# Altium footprint library Conn_JST_SM04B-PASS-TBT_LF_SN_eec_MFG.PcbLib: 1 footprints
Each footprint in its own frame and in the unit in brackets; x right, y up, seen from the top. Pads: shape width x height; smd on the part's side, far side on the other; paste and mask are expansions set on the pad; w line width, h text height; cw(c..) or ccw(c..) is an arc to the next point about the centre after c.
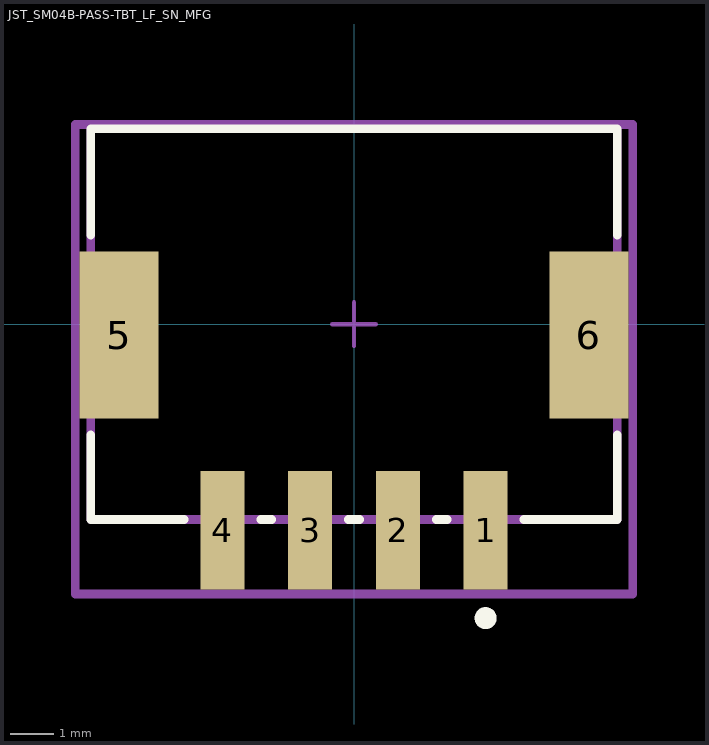
[diagram p0: the footprint, top view; thin cyan lines are the x and y axes]

## JST_SM04B-PASS-TBT_LF_SN_MFG [mm]
pads (6):
  rect 1x2.7 smd paste+0 mask+0: 1(3,-4.7) 2(1,-4.7) 3(-1,-4.7) 4(-3,-4.7)
  rect 1.8x3.8 smd paste+0 mask+0: 5(-5.35,-0.25) 6(5.35,-0.25)
Top Overlay:
  circle w0.25: c3,-6.7 r0.125
  lines w0.2: -6,-2.525 -6,-4.45 -3.875,-4.45 ; -6,2.025 -6,4.45 6,4.45 6,2.025 ; -2.125,-4.45 -1.875,-4.45 ; -0.125,-4.45 0.125,-4.45 ; 1.875,-4.45 2.125,-4.45 ; 3.875,-4.45 6,-4.45 6,-2.525
Mechanical 10:
  lines w0.2: -6.35,-6.15 6.35,-6.15 6.35,4.55 -6.35,4.55 -6.35,-6.15
  text ".Designator" at 0,-0.8 h1
Mechanical 12:
  lines w0.2: -6,-4.45 6,-4.45 6,4.45 -6,4.45 -6,-4.45
Mechanical 15:
  lines w0.1: -0.5,0 0.5,0 ; 0,-0.5 0,0.5
  lines w0.2: -6.35,-6.15 6.35,-6.15 6.35,4.55 -6.35,4.55 -6.35,-6.15
3D body "Conn_JST_SM04B-PASS-TBT_LF_SN_eec.STEP": height 0.25, standoff 0, extent -6.35,-6.15 6.35,4.55